# Altium schematic symbol library Schlib1.SchLib: 20 symbols
Pins are listed as number, name and electrical type; pins without a type are passive.

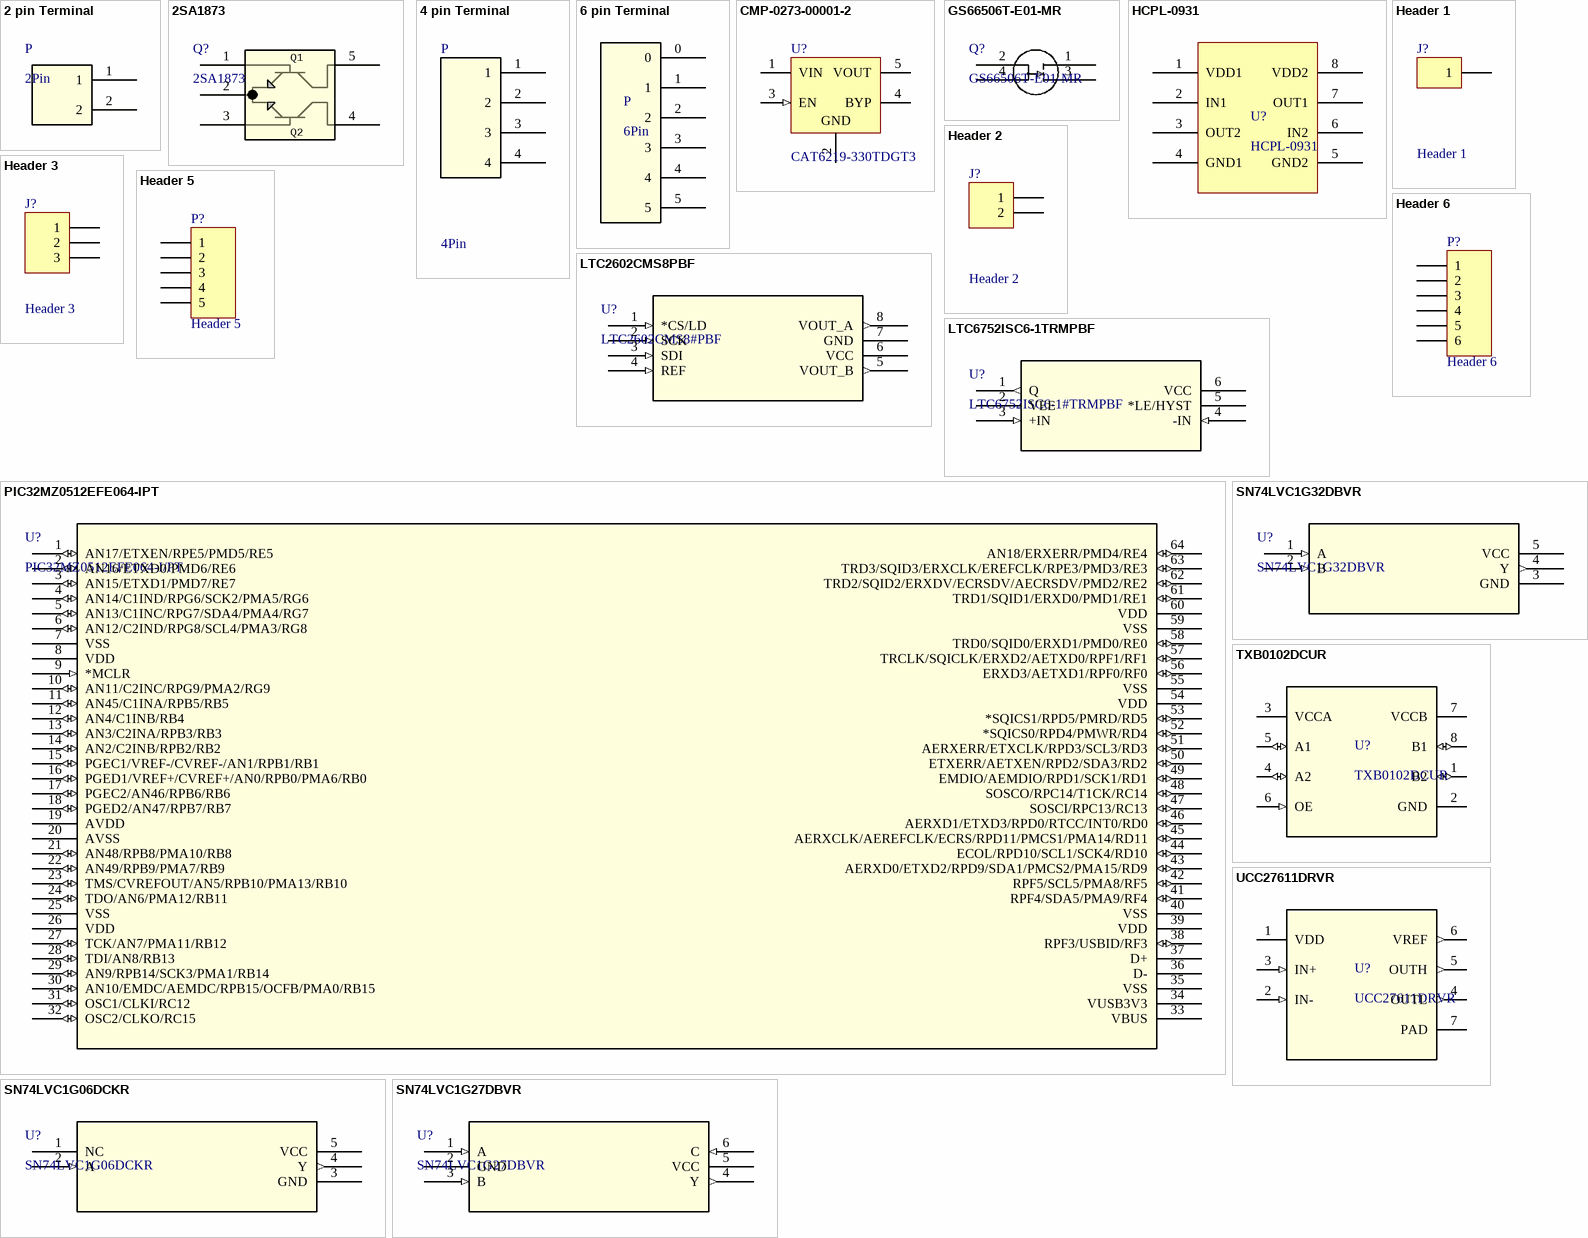
[diagram p0: symbols 2 pin Terminal to UCC27611DRVR]

## 2 pin Terminal
designator P, comment 2Pin
2 pin Terminal; ComponentLink1: http://www.digikey.com/scripts/DkSearch/dksus.dll?Detail&itemSeq=195945201&uq=635977101282764137
footprint 2 pin Terminal - pitch 2.54mm
footprint 2 pin Terminal - pitch 1.27mm
footprint 2 pin Terminal - pitch 2.54mm - vertical
footprint HiroseDF3
footprint Hirose_DF52_2pin
footprint 2 pin Terminal - pitch 2.54mm - pressfit
footprint 2 pin Terminal - pitch 2.54mm - pressfit - SHORT
footprint Molex 395001002
footprint 2 pin Terminal - pitch 1.27mm - right angle (Right angle, male pin)
footprint S2B-ZR connector (2 pin JST ZH connector)
pins: 1, 2

## 2SA1873
designator Q?
PNP + PNP Bipolar Transistor, -50 V, -0.15 A, SOT-353(USV); Manufacturer_Name: Toshiba Electronic Devices & Storage Corp.; Copyright: Copyright (C) 2025 Ultra Librarian. All rights reserved.; Manufacturer_Part_Number: 2SA1873; RefDes: RefDes; Type: Type
footprint SOT-353_USV_TOS
pins: 1 BASE1, 2 EMITTER, 3 BASE2, 4 COLLECTOR2, 5 COLLECTOR1
text: Q1; Q2

## 4 pin Terminal
designator P, comment 4Pin
4 pin Terminal; ComponentLink1: http://www.digikey.com/product-detail/en/te-connectivity-amp-connectors/3-644456-6/A31116-ND/698348
footprint 4 pin Terminal - pitch 2.54mm
footprint 4 pin Terminal - pitch 2.54mm - female
footprint 4 pin Terminal - pitch 1.27mm - right angle (Right angle, male pin)
footprint S4B-ZR connector (4 pin JST ZH connector)
pins: 1, 2, 3, 4

## 6 pin Terminal
designator P, comment 6Pin
6 pin Terminal; ComponentLink1: http://www.digikey.com/product-detail/en/te-connectivity-amp-connectors/3-644456-6/A31116-ND/698348
footprint 6 pin Terminal - pitch 2.54mm
footprint 6 pin Terminal - pitch 2.54mm - female
footprint 6 pin Terminal - pitch 2.54mm - right angle (Right angle, male pin)
footprint 6 pin Terminal - pitch 1.27mm - right angle (Right angle, male pin)
footprint S6B-ZR connector (6pin JST ZH connector)
pins: 0, 1, 2, 3, 4, 5

## CMP-0273-00001-2
designator U?, comment CAT6219-330TDGT3
Fixed Low Drop Positive Voltage Regulator, 3.3V, 5-Pin TSOT-23, Tape and Reel; Manufacturer: ON Semiconductor; PSRR (dB): 64; VI Max (V): 5.5; Output: Single; Iq Typ (mA): 0.085; Noise (uVrms): 45; VDO Typ (V): 0.3; Io Typ(A): 0.5; Vo(V): 3.3; Polarity: Positive; DatasheetVersion: Rev. 14; Package Type: TSOT-23-5; RoHS: Pb-free; Mounting Technology: Surface Mount; ComponentLink1URL: http://www.onsemi.com/; PartNumber: CAT6219-330TDGT3; ComponentLink3Description: Package Specification; ComponentLink2URL: http://www.onsemi.com/pub_link/Collateral/CAT6219-D.PDF; ComponentLink3URL: http://www.onsemi.com/pub_link/Collateral/419AE.PDF; PackageVersion: Rev. O; ComponentLink1Description: Manufacturer URL; PackageReference: TSOT-23; ComponentLink2Description: Datasheet; PackageDescription: 5-Pin Plastic Small Outline Package, Body 2.9 x 1.6mm, Pitch 0.95mm
footprint ONSC-SOT23-5_L (SOT23, 5-Leads, Body 2.90x1.6mm, Pitch 0.95mm, IPC High Density)
footprint ONSC-SOT23-5_N (SOT23, 5-Leads, Body 2.90x1.6mm, Pitch 0.95mm, IPC Medium Density)
footprint ONSC-SOT23-5_M (SOT23, 5-Leads, Body 2.90x1.6mm, Pitch 0.95mm, IPC Low Density)
pins: 1 VIN (power) "Supply voltage input.", 2 GND (power) "Ground reference.", 3 EN (in) "Enable input (active high); a 2.5 M pull-down  resistor is provided.", 4 BYP "Optional bypass capacitor connection for noise  reduction and PSRR enhancing.", 5 VOUT (power) "LDO Output Voltage."

## GS66506T-E01-MR
designator Q?
No Description Available; Manufacturer_Name: GaN Systems; Copyright: Copyright (C) 2025 Ultra Librarian. All rights reserved.; Manufacturer_Part_Number: GS66506T-E01-MR; RefDes: RefDes; Type: Type
footprint GS66506T-E01-MR_GAN
pins: 1, 2, 3, 4

## HCPL-0931
designator U?
ComponentLink: http://www.digikey.com/product-detail/en/broadcom-limited/HCPL-0931/516-2702-5-ND/969355
footprint SOIC-8
pins: 1 VDD1, 2 IN1, 3 OUT2, 4 GND1, 5 GND2, 6 IN2, 7 OUT1, 8 VDD2

## Header 1
designator J?
Header, 1-Pin; LatestRevisionDate: 17-Jul-2002; LatestRevisionNote: Re-released for DXP Platform.; Publisher: Altium Limited
footprint GNDOUT
pins: 1

## Header 2
designator J?
Header, 2-Pin; LatestRevisionDate: 17-Jul-2002; LatestRevisionNote: Re-released for DXP Platform.; Publisher: Altium Limited
footprint PheonixContact_1757242
footprint HVOUT
footprint BatteryConnector_Molex_1720640002
footprint BatteryConnector_TE_2154829_1
pins: 1, 2

## Header 3
designator J?
Header, 3-Pin; LatestRevisionDate: 17-Jul-2002; LatestRevisionNote: Re-released for DXP Platform.; Publisher: Altium Limited
footprint 3_test_pin
pins: 1, 2, 3

## Header 5
designator P?
Header, 5-Pin; LatestRevisionDate: 17-Jul-2002; LatestRevisionNote: Re-released for DXP Platform.; Publisher: Altium Limited
footprint HDR1X5 (Connector; Header; 5 Position)
signal-integrity model Connector
pins: 1, 2, 3, 4, 5

## Header 6
designator P?
Header, 6-Pin; LatestRevisionDate: 17-Jul-2002; LatestRevisionNote: Re-released for DXP Platform.; Publisher: Altium Limited
footprint HDR1X6 (Connector; Header; 6 Position)
signal-integrity model Connector
pins: 1, 2, 3, 4, 5, 6

## LTC2602CMS8PBF
designator U?, comment LTC2602CMS8#PBF
Dual 16-Bit Rail-to-Rail DACs in 8-Lead MSOP; Manufacturer_Name: Analog Devices Inc; Copyright: Copyright (C) 2025 Ultra Librarian. All rights reserved.; Manufacturer_Part_Number: LTC2602CMS8#PBF; Datasheet: https://www.analog.com/media/en/technical-documentation/data-sheets/2602fa.pdf; RefDes: RefDes; Type: Type
footprint MSOP-8_MS_LIT
pins: 1 *CS/LD (in), 2 SCK (in), 3 SDI (in), 4 REF (in), 5 VOUT_B (out), 6 VCC (power), 7 GND (power), 8 VOUT_A (out)

## LTC6752ISC6-1TRMPBF
designator U?, comment LTC6752ISC6-1#TRMPBF
280MHz, 2.9ns Comparator Family with Rail-to-Rail Inputs and CMOS Outputs; Manufacturer_Name: Analog Devices Inc; Copyright: Copyright (C) 2025 Ultra Librarian. All rights reserved.; Manufacturer_Part_Number: LTC6752ISC6-1#TRMPBF; Datasheet: https://www.analog.com/media/en/technical-documentation/data-sheets/6752fc.pdf; RefDes: RefDes; Type: Type
footprint SC70-SC6_LIT
pins: 1 Q (out), 2 VEE (power), 3 +IN (in), 4 -IN (in), 5 *LE/HYST, 6 VCC (power)

## PIC32MZ0512EFE064-IPT
designator U?, comment PIC32MZ0512EFE064-I/PT
No Description Available; Manufacturer_Name: Microchip; Copyright: Copyright (C) 2025 Ultra Librarian. All rights reserved.; Manufacturer_Part_Number: PIC32MZ0512EFE064-I/PT; RefDes: RefDes; Type: Type
footprint TQFP64_PT_MCH
pins: 1 AN17/ETXEN/RPE5/PMD5/RE5 (io), 2 AN16/ETXD0/PMD6/RE6 (io), 3 AN15/ETXD1/PMD7/RE7 (io), 4 AN14/C1IND/RPG6/SCK2/PMA5/RG6 (io), 5 AN13/C1INC/RPG7/SDA4/PMA4/RG7 (io), 6 AN12/C2IND/RPG8/SCL4/PMA3/RG8 (io), 7 VSS (power), 8 VDD (power), 9 *MCLR (in), 10 AN11/C2INC/RPG9/PMA2/RG9 (io), 11 AN45/C1INA/RPB5/RB5 (io), 12 AN4/C1INB/RB4 (io), 13 AN3/C2INA/RPB3/RB3 (io), 14 AN2/C2INB/RPB2/RB2 (io), 15 PGEC1/VREF-/CVREF-/AN1/RPB1/RB1 (io), 16 PGED1/VREF+/CVREF+/AN0/RPB0/PMA6/RB0 (io), 17 PGEC2/AN46/RPB6/RB6 (io), 18 PGED2/AN47/RPB7/RB7 (io), 19 AVDD (power), 20 AVSS (power), 21 AN48/RPB8/PMA10/RB8 (io), 22 AN49/RPB9/PMA7/RB9 (io), 23 TMS/CVREFOUT/AN5/RPB10/PMA13/RB10 (io), 24 TDO/AN6/PMA12/RB11 (io), 25 VSS (power), 26 VDD (power), 27 TCK/AN7/PMA11/RB12 (io), 28 TDI/AN8/RB13 (io), 29 AN9/RPB14/SCK3/PMA1/RB14 (io), 30 AN10/EMDC/AEMDC/RPB15/OCFB/PMA0/RB15 (io), 31 OSC1/CLKI/RC12 (io), 32 OSC2/CLKO/RC15 (io), 33 VBUS (power), 34 VUSB3V3 (power), 35 VSS (power), 36 D-, 37 D+, 38 RPF3/USBID/RF3 (io), 39 VDD (power), 40 VSS (power), 41 RPF4/SDA5/PMA9/RF4 (io), 42 RPF5/SCL5/PMA8/RF5 (io), 43 AERXD0/ETXD2/RPD9/SDA1/PMCS2/PMA15/RD9 (io), 44 ECOL/RPD10/SCL1/SCK4/RD10 (io), 45 AERXCLK/AEREFCLK/ECRS/RPD11/PMCS1/PMA14/RD11 (io), 46 AERXD1/ETXD3/RPD0/RTCC/INT0/RD0 (io), 47 SOSCI/RPC13/RC13 (io), 48 SOSCO/RPC14/T1CK/RC14 (io), 49 EMDIO/AEMDIO/RPD1/SCK1/RD1 (io), 50 ETXERR/AETXEN/RPD2/SDA3/RD2 (io), 51 AERXERR/ETXCLK/RPD3/SCL3/RD3 (io), 52 *SQICS0/RPD4/PMWR/RD4 (io), 53 *SQICS1/RPD5/PMRD/RD5 (io), 54 VDD (power), 55 VSS (power), 56 ERXD3/AETXD1/RPF0/RF0 (io), 57 TRCLK/SQICLK/ERXD2/AETXD0/RPF1/RF1 (io), 58 TRD0/SQID0/ERXD1/PMD0/RE0 (io), 59 VSS (power), 60 VDD (power), 61 TRD1/SQID1/ERXD0/PMD1/RE1 (io), 62 TRD2/SQID2/ERXDV/ECRSDV/AECRSDV/PMD2/RE2 (io), 63 TRD3/SQID3/ERXCLK/EREFCLK/RPE3/PMD3/RE3 (io), 64 AN18/ERXERR/PMD4/RE4 (io)

## SN74LVC1G06DCKR
designator U?
Single 1.65-V to 5.5-V inverter with open-drain outputs 5-SC70 -40 to 125; Manufacturer_Name: Texas Instruments; Copyright: Copyright (C) 2025 Ultra Librarian. All rights reserved.; Manufacturer_Part_Number: SN74LVC1G06DCKR; Datasheet: https://www.ti.com/lit/gpn/sn74lvc1g06; RefDes: RefDes; Type: Type
footprint DCK5
pins: 1 NC, 2 A (in), 3 GND (power), 4 Y (out), 5 VCC (power)

## SN74LVC1G27DBVR
designator U?
Single 3-input, 1.65-V to 5.5-V NOR gate 6-SOT-23 -40 to 125; Manufacturer_Name: Texas Instruments; Copyright: Copyright (C) 2025 Ultra Librarian. All rights reserved.; Manufacturer_Part_Number: SN74LVC1G27DBVR; RefDes: RefDes; Type: Type
footprint DBV6
pins: 1 A (in), 2 GND (power), 3 B (in), 4 Y (out), 5 VCC (power), 6 C (in)

## SN74LVC1G32DBVR
designator U?
1-ch, 2-input 1.65-V to 5.5-V 32-mA drive strength OR gate 5-SOT-23 -40 to 125; Manufacturer_Name: Texas Instruments; Copyright: Copyright (C) 2025 Ultra Librarian. All rights reserved.; Manufacturer_Part_Number: SN74LVC1G32DBVR; RefDes: RefDes; Type: Type
footprint DBV5
pins: 1 A (in), 2 B (in), 3 GND (power), 4 Y (out), 5 VCC (power)

## TXB0102DCUR
designator U?
2-Bit Bidirectional Voltage-Level Shifter with Auto Direction Sensing and +/-15-kV ESD Protect 8-VSSOP -40 to 85; Manufacturer_Name: Texas Instruments; Alternate_PartNumber: TXB0102DCUT; CompType: IC; TYPE: TYPE; RefDes: RefDes; Copyright: Copyright (C) 2025 Ultra Librarian. All rights reserved.; Manufacturer_Part_Number: TXB0102DCUR; PartNumber: TXB0102DCUR; PackageReference: DCU0008A; MountType: SMT; RoHS: Y; Manufacturer: Texas Instruments
footprint DCU0008A_N
pins: 1 B2 (io), 2 GND (power), 3 VCCA (power), 4 A2 (io), 5 A1 (io), 6 OE (in), 7 VCCB (power), 8 B1 (io)

## UCC27611DRVR
designator U?
4-A/6-A single-channel gate driver with 4-V UVLO and 5-V regulated output 6-WSON -40 to 140; Manufacturer_Name: Texas Instruments; CompType: IC; TYPE: TYPE; RefDes: RefDes; Copyright: Copyright (C) 2025 Ultra Librarian. All rights reserved.; Manufacturer_Part_Number: UCC27611DRVR; Application_BuildNumber: *; PartNumber: UCC27611DRVR; PackageReference: DRV0006A; MountType: SMT; RoHS: Y; Manufacturer: Texas Instruments
footprint DRV0006A
pins: 1 VDD (power), 2 IN- (in), 3 IN+ (in), 4 OUTL (out), 5 OUTH (out), 6 VREF (out), 7 PAD (power)